# Altium footprint library alexsb.PCBLIB: 444 footprints (part 2 of 28)
Each footprint in its own frame and in the unit in brackets; x right, y up, seen from the top. Pads: shape width x height; smd on the part's side, far side on the other; paste and mask are expansions set on the pad; w line width, h text height; cw(c..) or ccw(c..) is an arc to the next point about the centre after c.
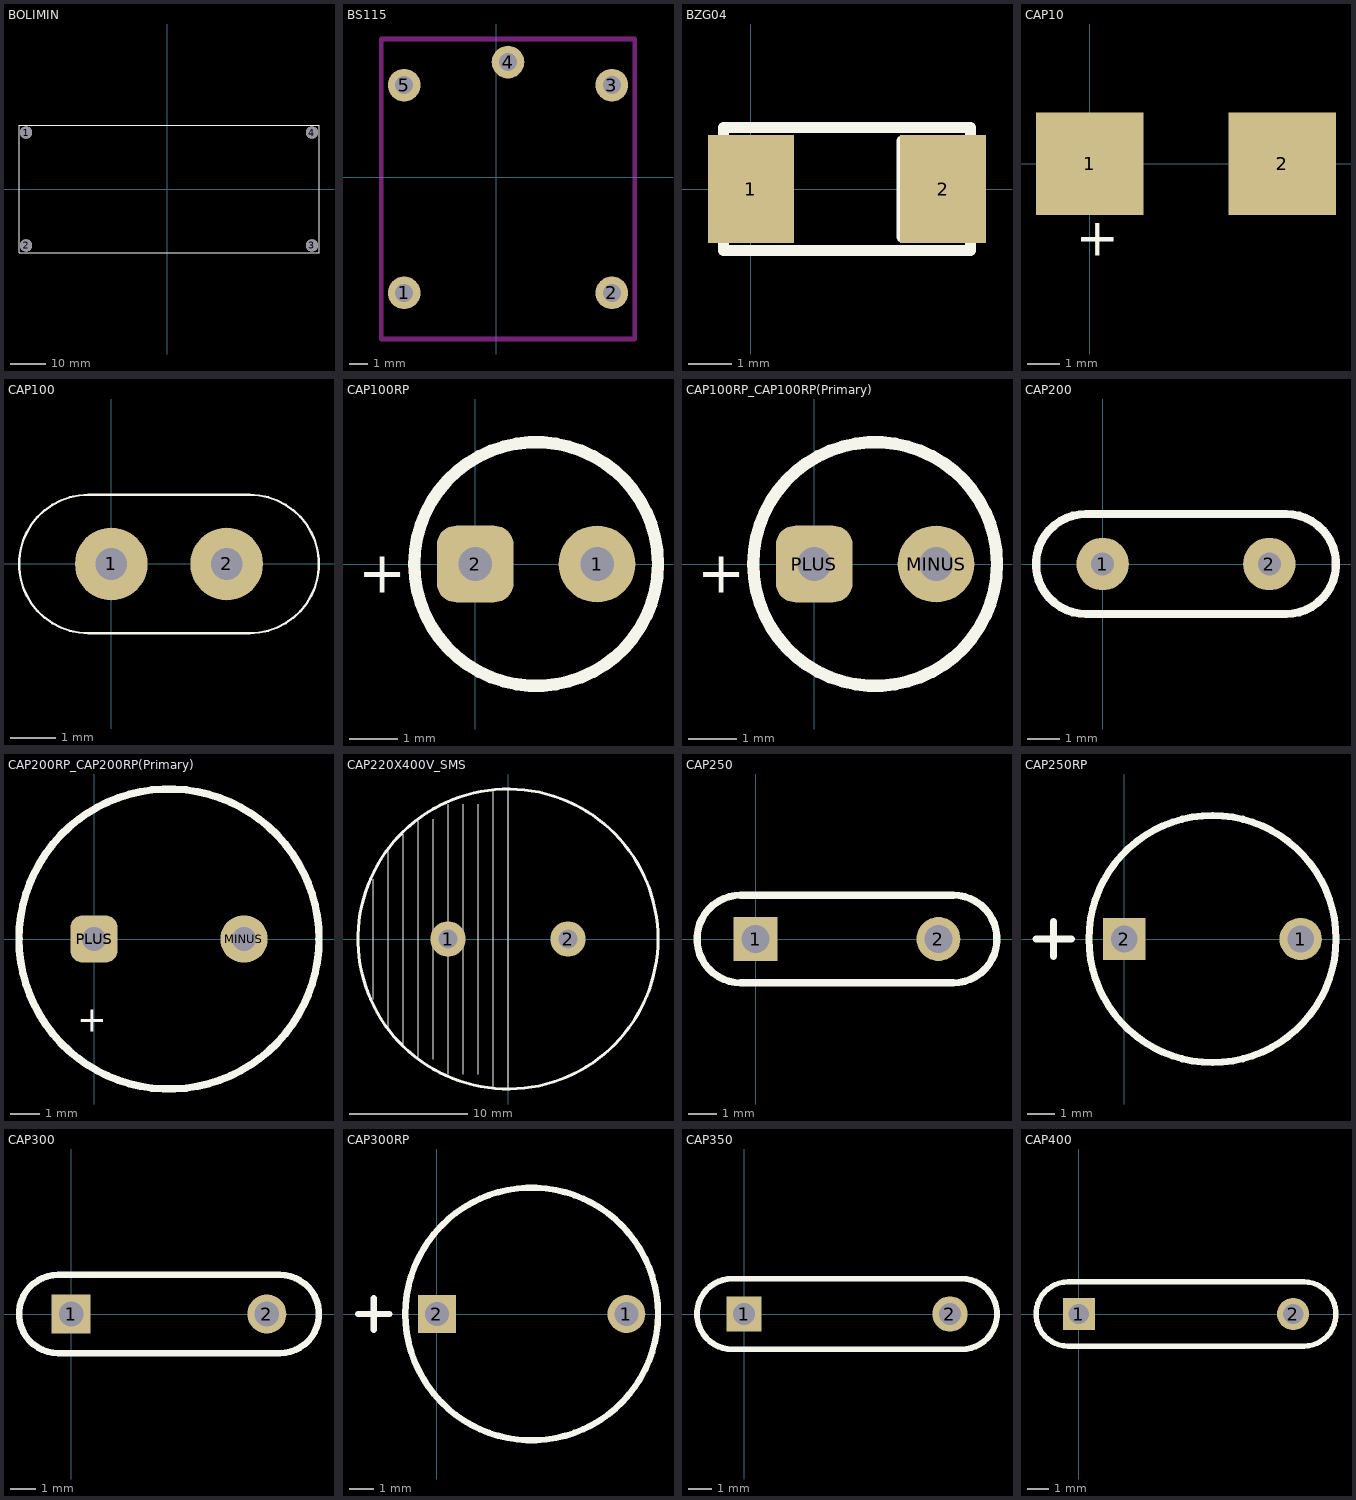
[diagram p1: the footprints below, top view; thin cyan lines are the x and y axes]

## BOLIMIN [mm]
pads (4):
  round 3.5 hole 3.5: 1(-40,16) 2(-40,-16) 3(41,-16) 4(41,16)
Top Overlay:
  lines w0.1: -42,-18 43,-18 43,18 -42,18 -42,-18

## BS115 [mm]
pads (5):
  round 1.8 hole 1: 1(-5.08,-6.35) 2(6.35,-6.35) 3(6.35,5.08) 4(0.635,6.35) 5(-5.08,5.08)
Keep-Out Layer:
  lines w0.254: -6.35,-8.89 7.62,-8.89 7.62,7.62 -6.35,7.62 -6.35,-8.89

## BZG04 [mm]
pads (2):
  rect 2x2.5 smd: 1(0,0) 2(4.445,0)
Top Overlay:
  lines w0.254: 3.492,-1.111 3.492,1.111 ; 3.81,-1.111 3.81,1.111 ; 4.127,-1.111 4.127,1.111 ; -0.635,-1.429 5.08,-1.429 5.08,1.429 -0.635,1.429 -0.635,-1.429

## CAP10 [mm]
pads (2):
  rect 3.3x3.15 smd: 1(0,0) 2(5.9,0)
Top Overlay:
  text "+" at -0.437,-3.2 h2

## CAP100 [mm]
pads (2):
  round 1.6 hole 0.7: 1(0,0) 2(2.54,0)
Top Overlay:
  lines w0.05: -0.508,-1.524 cw(c-0.508,0) -0.508,1.524 3.048,1.524 cw(c3.048,0) 3.048,-1.524 -0.508,-1.524

## CAP100RP [mm]
pads (2):
  round 1.6 hole 0.7: 1(2.54,0)
  rrect50% 1.6x1.6 hole 0.7: 2(0,0)
Top Overlay:
  circle w0.254: c1.27,0 r2.54
  text "+" at -2.442,-0.891 h1.5

## CAP100RP_CAP100RP(Primary) [mm]
pads (2):
  round 1.6 hole 0.7: MINUS(2.54,0)
  rrect50% 1.6x1.6 hole 0.7: PLUS(0,0)
Top Overlay:
  circle w0.254: c1.27,0 r2.54
  text "+" at -2.442,-0.891 h1.5

## CAP200 [mm]
pads (2):
  round 1.6 hole 0.7: 1(0,0) 2(5.08,0)
Top Overlay:
  lines w0.254: -0.508,-1.524 cw(c-0.508,0) -0.508,1.524 5.588,1.524 cw(c5.588,0) 5.588,-1.524 -0.508,-1.524

## CAP200RP_CAP200RP(Primary) [mm]
pads (2):
  round 1.6 hole 0.8: MINUS(5.08,0)
  rrect50% 1.6x1.6 hole 0.8: PLUS(0,0)
Top Overlay:
  circle w0.254: c2.54,0 r5.08
  text "+" at -0.564,-3.431 h1.5

## CAP220X400V_SMS [mm]
pads (2):
  round 3 hole 1.6: 1(-5.08,0) 2(5.08,0)
Top Overlay:
  circle w0.254: c0,0 r12.7
  lines w0.1: -11.43,-5.08 -11.43,5.08 ; -10.16,-7.62 -10.16,7.62 ; -8.89,-8.89 -8.89,8.89 ; -7.62,-10.16 -7.62,10.16 ; -6.35,-10.16 -6.35,10.16 ; -5.08,-11.43 -5.08,11.43 ; -3.81,-11.43 -3.81,11.43 ; -2.54,-11.43 -2.54,11.43 ; -1.27,-12.7 -1.27,12.7 ; 0,-12.7 0,12.7

## CAP250 [mil]
pads (2):
  rect 60x60 hole 38: 1(0,0)
  round 60 hole 38: 2(250,0)
Top Overlay:
  lines w10: -20,-60 cw(c-20,0) -20,60 270,60 cw(c270,0) 270,-60 -20,-60

## CAP250RP [mil]
pads (2):
  round 60 hole 38: 1(250,0)
  rect 60x60 hole 38: 2(0,0)
Top Overlay:
  circle w10: c125,0 r175
  lines w10: -125,0 -75,0 ; -100,-25 -100,25

## CAP300 [mil]
pads (2):
  rect 60x60 hole 38: 1(0,0)
  round 60 hole 38: 2(300,0)
Top Overlay:
  lines w10: -20,-60 cw(c-20,0) -20,60 320,60 cw(c320,0) 320,-60 -20,-60

## CAP300RP [mil]
pads (2):
  round 60 hole 38: 1(300,0)
  rect 60x60 hole 38: 2(0,0)
Top Overlay:
  circle w10: c150,0 r200
  lines w10: -125,0 -75,0 ; -100,-25 -100,25

## CAP350 [mil]
pads (2):
  rect 60x60 hole 38: 1(0,0)
  round 60 hole 38: 2(350,0)
Top Overlay:
  lines w10: -20,-60 cw(c-20,0) -20,60 370,60 cw(c370,0) 370,-60 -20,-60

## CAP400 [mil]
pads (2):
  rect 60x60 hole 38: 1(0,0)
  round 60 hole 38: 2(400,0)
Top Overlay:
  lines w10: -20,-60 cw(c-20,0) -20,60 420,60 cw(c420,0) 420,-60 -20,-60